# EAGLE library part 853-43-020-20-001000 (library 853-43-020-20-001000)
IC & Component Sockets STANDARD SOCKET HEADER Source: Datasheet <https://www.mill-max.com/catalog/download/2017-11:034.pdf>
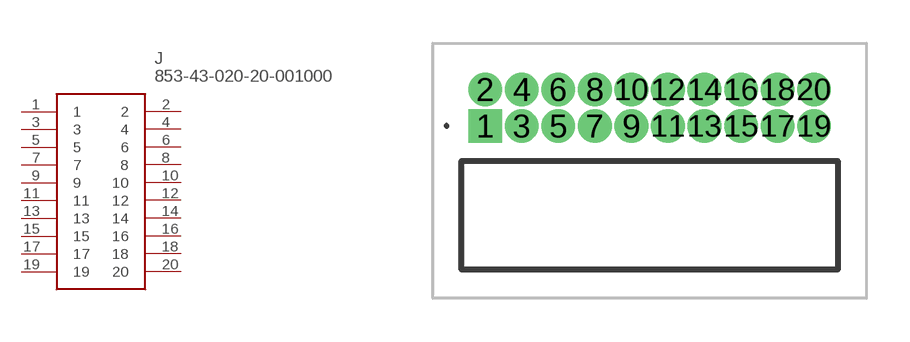
[diagram p0: symbol with the pads of 8534302020001000; footprint 8534302020001000]

Designator prefix J

## 853-43-020-20-001000 (Description: IC & Component Sockets STANDARD SOCKET HEADER; Height: 3.05mm; Manufacturer_Name: Mill-Max; Manufacturer_Part_Number: 853-43-020-20-001000; Mouser_Part_Number: 575-8534302020001000; Mouser_Price-Stock: https://www.mouser.co.uk/ProductDetail/Mill-Max/853-43-020-20-001000?qs=s8Nb1z4Wn%2FSdjHDJ6X1ElA%3D%3D)  [8534302020001000]
1  1
2  2
3  3
4  4
5  5
6  6
7  7
8  8
9  9
10  10
11  11
12  12
13  13
14  14
15  15
16  16
17  17
18  18
19  19
20  20

## Footprint 8534302020001000 (pad centres in mm)
853-43-020-20-001000-2
drill 0.66 pad 1.07 square: 1 0,0
drill 0.66 pad 1.07: 2 0,1.27; 3 1.27,0; 4 1.27,1.27; 5 2.54,0; 6 2.54,1.27; 7 3.81,0; 8 3.81,1.27; 9 5.08,0; 10 5.08,1.27; 11 6.35,0; 12 6.35,1.27; 13 7.62,0; 14 7.62,1.27; 15 8.89,0; 16 8.89,1.27; 17 10.16,0; 18 10.16,1.27; 19 11.43,0; 20 11.43,1.27